# EAGLE library part 61801525023 (library Wuerth_Elektronik_eiCan_D-SUB_Connectors)
WR-DSUB Male PCB Connector, 15 Pins
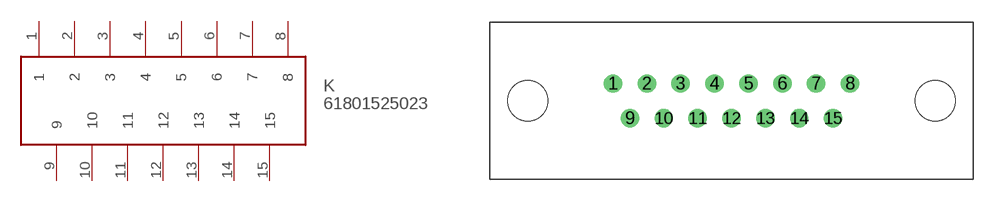
[diagram p1: symbol with the pads of 61801525023; footprint 61801525023]

Designator prefix K

## 61801525023  [61801525023]
1  1
2  2
3  3
4  4
5  5
6  6
7  7
8  8
9  9
10  10
11  11
12  12
13  13
14  14
15  15

## Footprint 61801525023 (pad centres in mm)
WR-DSUB Male PCB Connector, 15 Pins
drill 1: 1 -9.695,1.42; 2 -6.925,1.42; 3 -4.155,1.42; 4 -1.385,1.42; 5 1.385,1.42; 6 4.155,1.42; 7 6.925,1.42; 8 9.695,1.42; 9 -8.31,-1.42; 10 -5.54,-1.42; 11 -2.77,-1.42; 12 0,-1.42; 13 2.77,-1.42; 14 5.54,-1.42; 15 8.31,-1.42
hole 3.3 at -16.66,0
hole 3.3 at 16.66,0